# EAGLE library part RF-LORA-868-SO (library project)
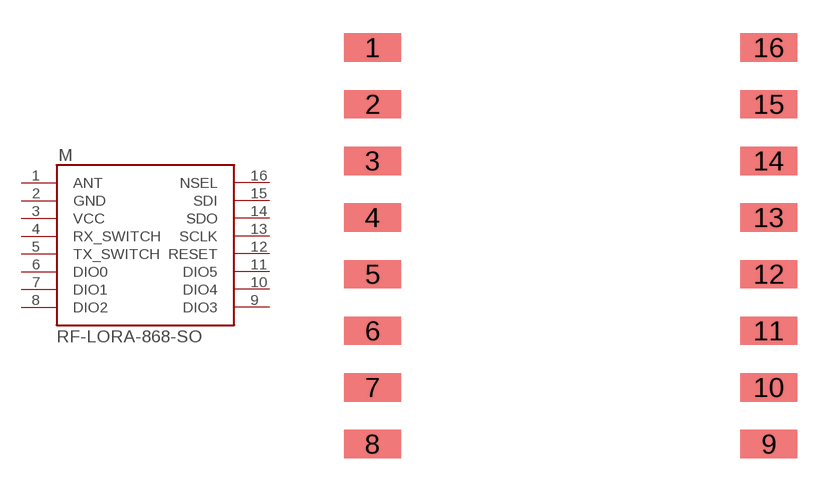
[diagram p1: symbol with the pads of RF-LORA-868-SO; footprint RF-LORA-868-SO]

Designator prefix M

## RF-LORA-868-SO  [RF-LORA-868-SO]
1  ANT
2  GND
3  VCC
4  RX_SWITCH
5  TX_SWITCH
6  DIO0
7  DIO1
8  DIO2
9  DIO3
10  DIO4
11  DIO5
12  RESET
13  SCLK
14  SDO
15  SDI
16  NSEL

## Footprint RF-LORA-868-SO (pad centres in mm)
smd 2.54 x 1.27: 1 -8.89,8.89; 2 -8.89,6.35; 3 -8.89,3.81; 4 -8.89,1.27; 5 -8.89,-1.27; 6 -8.89,-3.81; 7 -8.89,-6.35; 8 -8.89,-8.89; 9 8.89,-8.89; 10 8.89,-6.35; 11 8.89,-3.81; 12 8.89,-1.27; 13 8.89,1.27; 14 8.89,3.81; 15 8.89,6.35; 16 8.89,8.89